# EAGLE library part OXFW971 (library oxford-semi)
Firewire Audio Controller 16 Channel, Isochronous Streaming, S/PDIF & MIDI
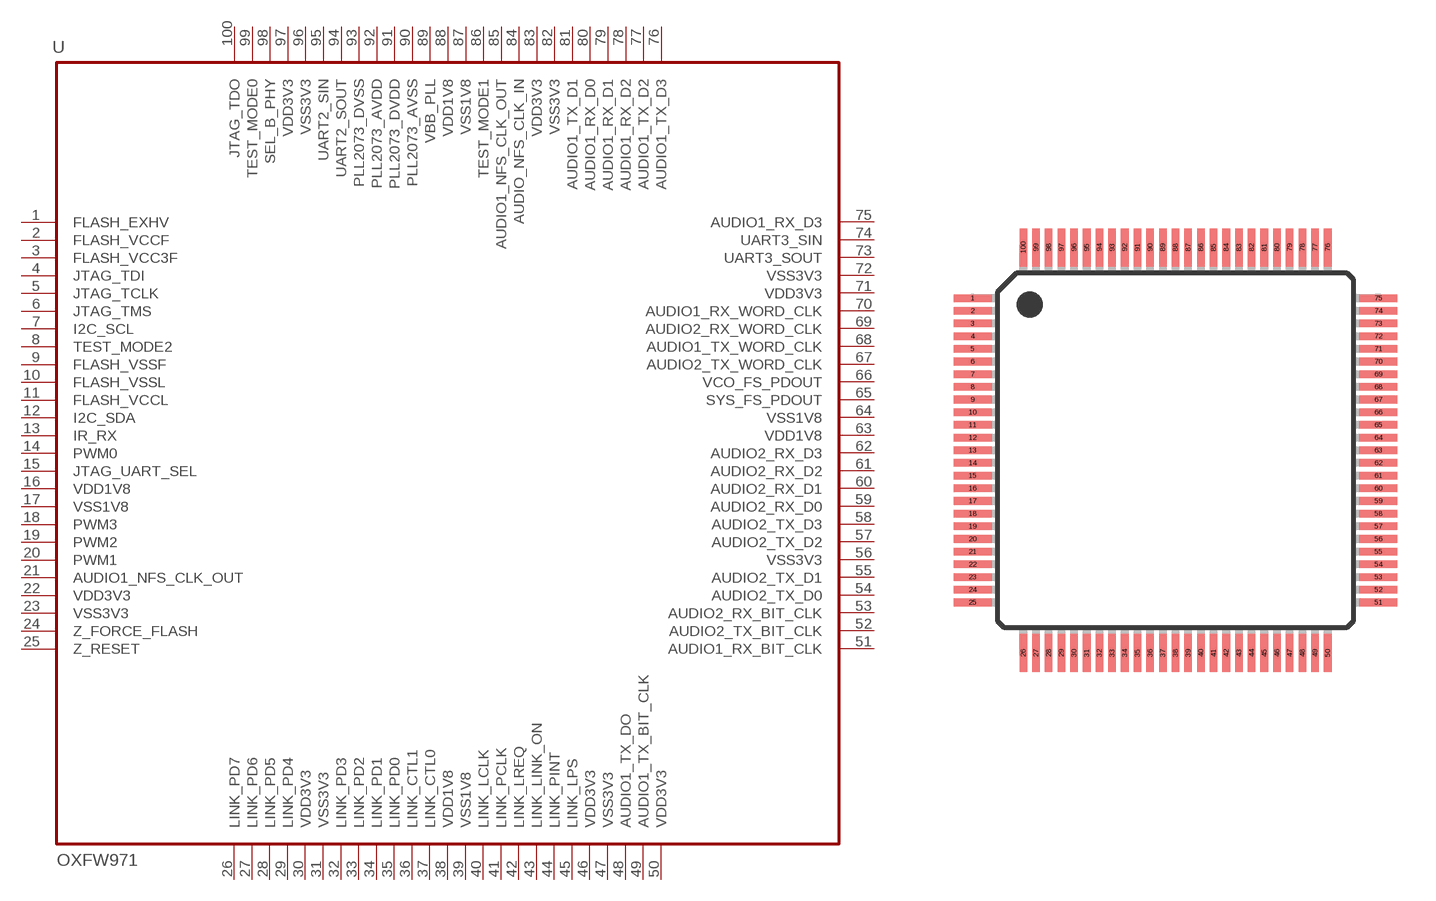
[diagram p0: symbol with the pads of TQFP100; footprint TQFP100]

Designator prefix U

## OXFW971TQ  [TQFP100]
1  FLASH_EXHV  pwr
2  FLASH_VCCF  pwr
3  FLASH_VCC3F  pwr
4  JTAG_TDI
5  JTAG_TCLK  in
6  JTAG_TMS  in
7  I2C_SCL
8  TEST_MODE2  in
9  FLASH_VSSF  pwr
10  FLASH_VSSL  pwr
11  FLASH_VCCL  pwr
12  I2C_SDA
13  IR_RX
14  PWM0
15  JTAG_UART_SEL  in
16  VDD1V8  pwr
17  VSS1V8  pwr
18  PWM3
19  PWM2
20  PWM1
21  AUDIO1_NFS_CLK_OUT
22  VDD3V3  pwr
23  VSS3V3  pwr
24  Z_FORCE_FLASH  in
25  Z_RESET  in
26  LINK_PD7
27  LINK_PD6
28  LINK_PD5
29  LINK_PD4
30  VDD3V3  pwr
31  VSS3V3  pwr
32  LINK_PD3
33  LINK_PD2
34  LINK_PD1
35  LINK_PD0
36  LINK_CTL1
37  LINK_CTL0
38  VDD1V8  pwr
39  VSS1V8  pwr
40  LINK_LCLK  out
41  LINK_PCLK  in
42  LINK_LREQ  out
43  LINK_LINK_ON  in
44  LINK_PINT  in
45  LINK_LPS  out
46  VDD3V3  pwr
47  VSS3V3  pwr
48  AUDIO1_TX_DO
49  AUDIO1_TX_BIT_CLK
50  VDD3V3  pwr
51  AUDIO1_RX_BIT_CLK
52  AUDIO2_TX_BIT_CLK
53  AUDIO2_RX_BIT_CLK
54  AUDIO2_TX_D0  out
55  AUDIO2_TX_D1  out
56  VSS3V3  pwr
57  AUDIO2_TX_D2  out
58  AUDIO2_TX_D3  out
59  AUDIO2_RX_D0
60  AUDIO2_RX_D1
61  AUDIO2_RX_D2
62  AUDIO2_RX_D3
63  VDD1V8  pwr
64  VSS1V8  pwr
65  SYS_FS_PDOUT
66  VCO_FS_PDOUT
67  AUDIO2_TX_WORD_CLK
68  AUDIO1_TX_WORD_CLK
69  AUDIO2_RX_WORD_CLK
70  AUDIO1_RX_WORD_CLK
71  VDD3V3  pwr
72  VSS3V3  pwr
73  UART3_SOUT
74  UART3_SIN
75  AUDIO1_RX_D3
76  AUDIO1_TX_D3  out
77  AUDIO1_TX_D2  out
78  AUDIO1_RX_D2
79  AUDIO1_RX_D1
80  AUDIO1_RX_D0
81  AUDIO1_TX_D1
82  VSS3V3  pwr
83  VDD3V3  pwr
84  AUDIO_NFS_CLK_IN  in
85  AUDIO1_NFS_CLK_OUT
86  TEST_MODE1  in
87  VSS1V8  pwr
88  VDD1V8  pwr
89  VBB_PLL  pas
90  PLL2073_AVSS  pwr
91  PLL2073_DVDD  pwr
92  PLL2073_AVDD  pwr
93  PLL2073_DVSS  pwr
94  UART2_SOUT
95  UART2_SIN
96  VSS3V3
97  VDD3V3
98  SEL_B_PHY  in
99  TEST_MODE0  in
100  JTAG_TDO  out

## Footprint TQFP100 (pad centres in mm)
Plastic Thin Quad Flat Pack
smd 1.5 x 0.3: 1 -8,6; 2 -8,5.5; 3 -8,5; 4 -8,4.5; 5 -8,4; 6 -8,3.5; 7 -8,3; 8 -8,2.5; 9 -8,2; 10 -8,1.5; 11 -8,1; 12 -8,0.5; 13 -8,0; 14 -8,-0.5; 15 -8,-1; 16 -8,-1.5; 17 -8,-2; 18 -8,-2.5; 19 -8,-3; 20 -8,-3.5; 21 -8,-4; 22 -8,-4.5; 23 -8,-5; 24 -8,-5.5; 25 -8,-6; 51 8,-6; 52 8,-5.5; 53 8,-5; 54 8,-4.5; 55 8,-4; 56 8,-3.5; 57 8,-3; 58 8,-2.5; 59 8,-2; 60 8,-1.5; 61 8,-1; 62 8,-0.5; 63 8,0; 64 8,0.5; 65 8,1; 66 8,1.5; 67 8,2; 68 8,2.5; 69 8,3; 70 8,3.5; 71 8,4; 72 8,4.5; 73 8,5; 74 8,5.5; 75 8,6
smd 0.3 x 1.5: 26 -6,-8; 27 -5.5,-8; 28 -5,-8; 29 -4.5,-8; 30 -4,-8; 31 -3.5,-8; 32 -3,-8; 33 -2.5,-8; 34 -2,-8; 35 -1.5,-8; 36 -1,-8; 37 -0.5,-8; 38 0,-8; 39 0.5,-8; 40 1,-8; 41 1.5,-8; 42 2,-8; 43 2.5,-8; 44 3,-8; 45 3.5,-8; 46 4,-8; 47 4.5,-8; 48 5,-8; 49 5.5,-8; 50 6,-8; 76 6,8; 77 5.5,8; 78 5,8; 79 4.5,8; 80 4,8; 81 3.5,8; 82 3,8; 83 2.5,8; 84 2,8; 85 1.5,8; 86 1,8; 87 0.5,8; 88 0,8; 89 -0.5,8; 90 -1,8; 91 -1.5,8; 92 -2,8; 93 -2.5,8; 94 -3,8; 95 -3.5,8; 96 -4,8; 97 -4.5,8; 98 -5,8; 99 -5.5,8; 100 -6,8